# EAGLE library part MA12-1 (library dec-con)
Pin Header (.125" spacing)
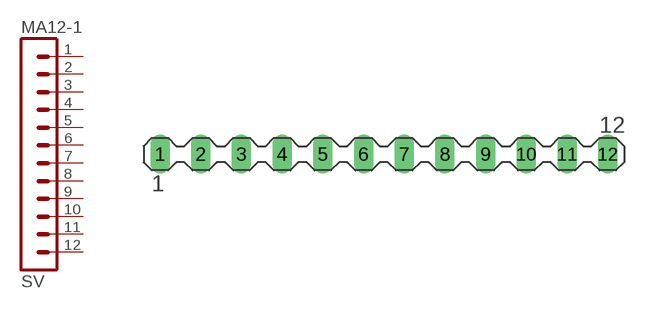
[diagram p21: symbol with the pads of MA12-1; footprint MA12-1]

Designator prefix SV

## MA12-1  [MA12-1]
1  1  pas
2  2  pas
3  3  pas
4  4  pas
5  5  pas
6  6  pas
7  7  pas
8  8  pas
9  9  pas
10  10  pas
11  11  pas
12  12  pas

## Footprint MA12-1 (pad centres in mm)
PIN HEADER (.125")
drill 1.016 long: 1 -19.05,0; 2 -15.875,0; 3 -12.7,0; 4 -9.525,0; 5 -6.35,0; 6 -3.175,0; 7 0,0; 8 3.175,0; 9 6.35,0; 10 9.525,0; 11 12.7,0; 12 15.875,0